# Altium schematic symbol library kmilo17pet-NSC_Switcher.SchLib: 2226 symbols (part 58 of 59)
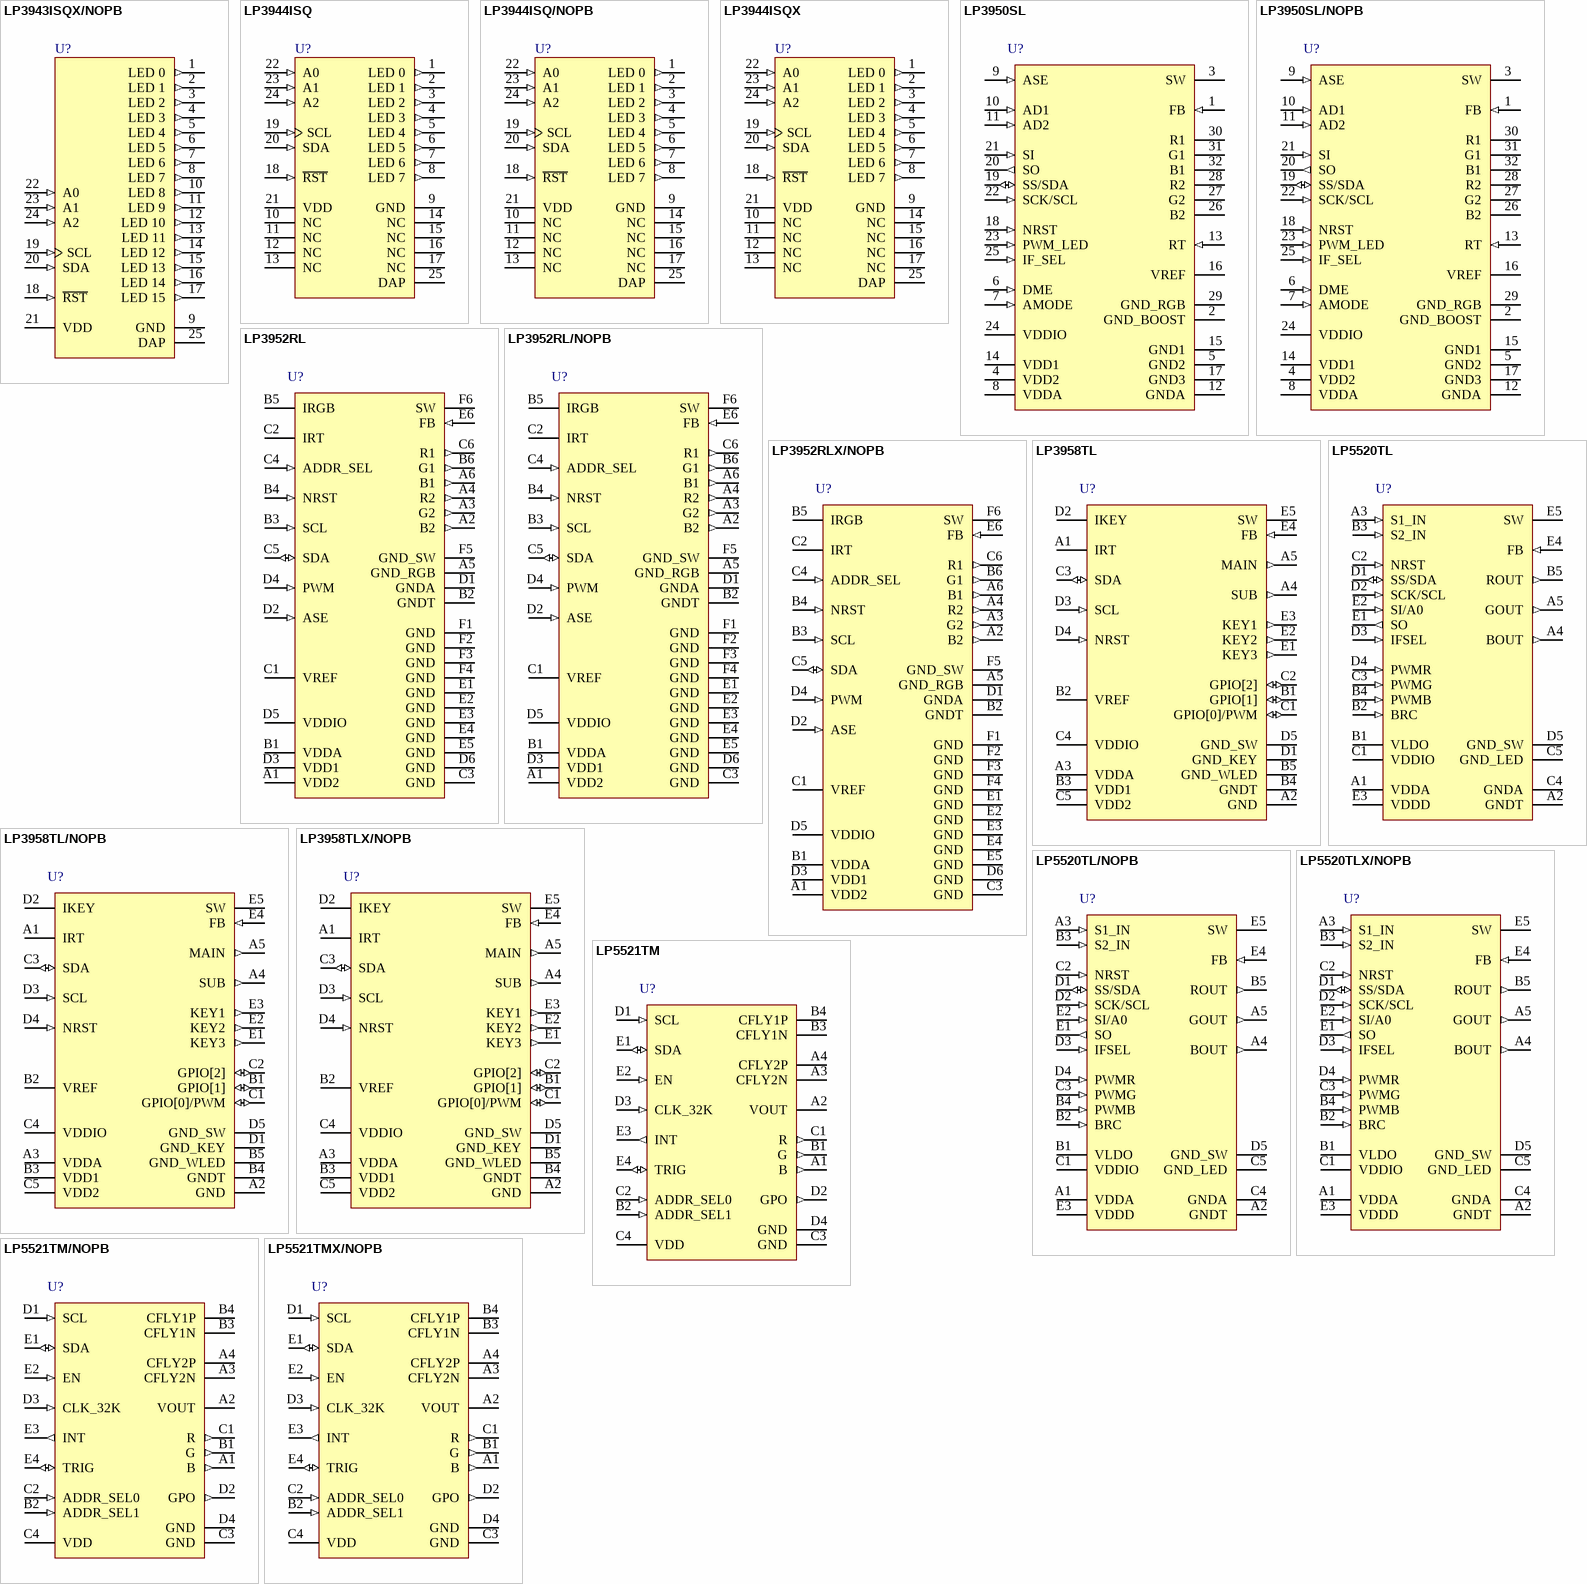
[diagram p126: symbols LP3943ISQX/NOPB to LP5521TMX/NOPB]

## LP3944ISQ
designator U?
RGB/White/Blue 8-LED Fun Light Driver, 24-pin LLP; PartNumber: LP3944ISQ; Manufacturer: National Semiconductor; PackageTopMarking: NS*UZXYTT*3944SQ; PowerWise: Y; CompType: Switcher; DatasheetVersion: Nov-2003; PackageVersion: revB, Aug-2003; PackageReference: SQA24A; PackageDescription: LLP, Plastic, Quad, 4 x 4 x 0.8mm Body, 24 Lead, 0.5mm Pitch, No Pullback; RoHS: N; PinCount: 24; High-Reliability: Y; Code_JEDEC: MO-220-WGGD-6; ComponentLink1Description: Manufacturer URL; ComponentLink1URL: http://www.national.com/; ComponentLink2Description: LP3944 Datasheet; ComponentLink2URL: http://www.national.com/ds/LP/LP3944.pdf; ComponentLink3Description: LP3944 Web Page; ComponentLink3URL: http://www.national.com/pf/LP/LP3944.html; ComponentLink4Description: SQA24A Package Page; ComponentLink4URL: http://www.national.com/packaging/folders/sqa24a.html
footprint SQA24A (QFN, 24-Leads, Body 4x4mm, Pitch 0.5mm, Thermal Pad 2.7x2.7mm, NSC Recommended)
pins: 1 LED 0 (out), 2 LED 1 (out), 3 LED 2 (out), 4 LED 3 (out), 5 LED 4 (out), 6 LED 5 (out), 7 LED 6 (out), 8 LED 7 (out), 9 GND (power), 10 NC, 11 NC, 12 NC, 13 NC, 14 NC, 15 NC, 16 NC, 17 NC, 18 ~{RST} (in), 19 SCL (in), 20 SDA (in), 21 VDD (power), 22 A0 (in), 23 A1 (in), 24 A2 (in), 25 DAP (power)

## LP3944ISQ/NOPB
designator U?
RGB/White/Blue 8-LED Fun Light Driver, 24-pin LLP, Pb-Free; PartNumber: LP3944ISQ/NOPB; Manufacturer: National Semiconductor; PackageTopMarking: NS*UZXYTT*3944SQ; PowerWise: Y; CompType: Switcher; DatasheetVersion: Nov-2003; PackageVersion: revB, Aug-2003; PackageReference: SQA24A; PackageDescription: LLP, Plastic, Quad, 4 x 4 x 0.8mm Body, 24 Lead, 0.5mm Pitch, No Pullback; RoHS: Y; PinCount: 24; High-Reliability: Y; Code_JEDEC: MO-220-WGGD-6; ComponentLink1Description: Manufacturer URL; ComponentLink1URL: http://www.national.com/; ComponentLink2Description: LP3944 Datasheet; ComponentLink2URL: http://www.national.com/ds/LP/LP3944.pdf; ComponentLink3Description: LP3944 Web Page; ComponentLink3URL: http://www.national.com/pf/LP/LP3944.html; ComponentLink4Description: SQA24A Package Page; ComponentLink4URL: http://www.national.com/packaging/folders/sqa24a.html
footprint SQA24A (QFN, 24-Leads, Body 4x4mm, Pitch 0.5mm, Thermal Pad 2.7x2.7mm, NSC Recommended)
pins: 1 LED 0 (out), 2 LED 1 (out), 3 LED 2 (out), 4 LED 3 (out), 5 LED 4 (out), 6 LED 5 (out), 7 LED 6 (out), 8 LED 7 (out), 9 GND (power), 10 NC, 11 NC, 12 NC, 13 NC, 14 NC, 15 NC, 16 NC, 17 NC, 18 ~{RST} (in), 19 SCL (in), 20 SDA (in), 21 VDD (power), 22 A0 (in), 23 A1 (in), 24 A2 (in), 25 DAP (power)

## LP3944ISQX
designator U?
RGB/White/Blue 8-LED Fun Light Driver, 24-pin LLP; PartNumber: LP3944ISQX; Manufacturer: National Semiconductor; PackageTopMarking: NS*UZXYTT*3944SQ; PowerWise: Y; CompType: Switcher; DatasheetVersion: Nov-2003; PackageVersion: revB, Aug-2003; PackageReference: SQA24A; PackageDescription: LLP, Plastic, Quad, 4 x 4 x 0.8mm Body, 24 Lead, 0.5mm Pitch, No Pullback; RoHS: N; PinCount: 24; High-Reliability: Y; Code_JEDEC: MO-220-WGGD-6; ComponentLink1Description: Manufacturer URL; ComponentLink1URL: http://www.national.com/; ComponentLink2Description: LP3944 Datasheet; ComponentLink2URL: http://www.national.com/ds/LP/LP3944.pdf; ComponentLink3Description: LP3944 Web Page; ComponentLink3URL: http://www.national.com/pf/LP/LP3944.html; ComponentLink4Description: SQA24A Package Page; ComponentLink4URL: http://www.national.com/packaging/folders/sqa24a.html
footprint SQA24A (QFN, 24-Leads, Body 4x4mm, Pitch 0.5mm, Thermal Pad 2.7x2.7mm, NSC Recommended)
pins: 1 LED 0 (out), 2 LED 1 (out), 3 LED 2 (out), 4 LED 3 (out), 5 LED 4 (out), 6 LED 5 (out), 7 LED 6 (out), 8 LED 7 (out), 9 GND (power), 10 NC, 11 NC, 12 NC, 13 NC, 14 NC, 15 NC, 16 NC, 17 NC, 18 ~{RST} (in), 19 SCL (in), 20 SDA (in), 21 VDD (power), 22 A0 (in), 23 A1 (in), 24 A2 (in), 25 DAP (power)

## LP3950SL
designator U?
Color LED Driver with Audio Synchronizer, 32-pin Laminate TCSP; PartNumber: LP3950SL; Manufacturer: National Semiconductor; PackageTopMarking: NSZXYTT*LP3950SL; PowerWise: Y; CompType: Switcher; DatasheetVersion: Feb-2005; PackageVersion: revA, Aug-2001; PackageReference: SLD32A; PackageDescription: Thin CSP, Plastic, Laminated, 4.5 x 5.5 x 0.8mm Body, 32 Lead, 0.5mm Pitch; RoHS: Y; PinCount: 32; High-Reliability: Y; Code_JEDEC: MO-208-GEEA; ComponentLink1Description: Manufacturer URL; ComponentLink1URL: http://www.national.com/; ComponentLink2Description: LP3950 Datasheet; ComponentLink2URL: http://www.national.com/ds/LP/LP3950.pdf; ComponentLink3Description: LP3950 Web Page; ComponentLink3URL: http://www.national.com/pf/LP/LP3950.html; ComponentLink4Description: SLD32A Package Page; ComponentLink4URL: http://www.national.com/packaging/folders/sld32a.html
footprint SLD32A (PQFN, 32-Leads (9x7 pads), Body 4.5x5.5mm, Pitch 0.5mm, NSC Recommended)
pins: 1 FB (in), 2 GND_BOOST (power), 3 SW (power), 4 VDD2 (power), 5 GND2 (power), 6 DME (in), 7 AMODE (in), 8 VDDA (power), 9 ASE (in), 10 AD1 (in), 11 AD2 (in), 12 GNDA (power), 13 RT (in), 14 VDD1 (power), 15 GND1 (power), 16 VREF, 17 GND3 (power), 18 NRST (in), 19 SS/SDA (io), 20 SO (out), 21 SI (in), 22 SCK/SCL (in), 23 PWM_LED (in), 24 VDDIO (power), 25 IF_SEL (in), 26 B2 (oc), 27 G2 (oc), 28 R2 (oc), 29 GND_RGB (power), 30 R1 (oc), 31 G1 (oc), 32 B1 (oc)

## LP3950SL/NOPB
designator U?
Color LED Driver with Audio Synchronizer, 32-pin Laminate TCSP, Pb-Free; PartNumber: LP3950SL/NOPB; Manufacturer: National Semiconductor; PackageTopMarking: NSZXYTTE#*LP3950SL; PowerWise: Y; CompType: Switcher; DatasheetVersion: Feb-2005; PackageVersion: revA, Aug-2001; PackageReference: SLD32A; PackageDescription: Thin CSP, Plastic, Laminated, 4.5 x 5.5 x 0.8mm Body, 32 Lead, 0.5mm Pitch; RoHS: Y; PinCount: 32; High-Reliability: Y; Code_JEDEC: MO-208-GEEA; ComponentLink1Description: Manufacturer URL; ComponentLink1URL: http://www.national.com/; ComponentLink2Description: LP3950 Datasheet; ComponentLink2URL: http://www.national.com/ds/LP/LP3950.pdf; ComponentLink3Description: LP3950 Web Page; ComponentLink3URL: http://www.national.com/pf/LP/LP3950.html; ComponentLink4Description: SLD32A Package Page; ComponentLink4URL: http://www.national.com/packaging/folders/sld32a.html
footprint SLD32A (PQFN, 32-Leads (9x7 pads), Body 4.5x5.5mm, Pitch 0.5mm, NSC Recommended)
pins: 1 FB (in), 2 GND_BOOST (power), 3 SW (power), 4 VDD2 (power), 5 GND2 (power), 6 DME (in), 7 AMODE (in), 8 VDDA (power), 9 ASE (in), 10 AD1 (in), 11 AD2 (in), 12 GNDA (power), 13 RT (in), 14 VDD1 (power), 15 GND1 (power), 16 VREF, 17 GND3 (power), 18 NRST (in), 19 SS/SDA (io), 20 SO (out), 21 SI (in), 22 SCK/SCL (in), 23 PWM_LED (in), 24 VDDIO (power), 25 IF_SEL (in), 26 B2 (oc), 27 G2 (oc), 28 R2 (oc), 29 GND_RGB (power), 30 R1 (oc), 31 G1 (oc), 32 B1 (oc)

## LP3952RL
designator U?
6-Channel Color LED Driver with Audio Synchronization, 36-pin Micro SMDXT; PartNumber: LP3952RL; Manufacturer: National Semiconductor; PackageTopMarking: XYTT*I D62B; PowerWise: Y; CompType: Switcher; DatasheetVersion: Jul-2007; PackageVersion: Aug-2007; PackageReference: RLA36AAA; PackageDescription: Micro SMDxt, 36 Bump (Large), 0.5mm Pitch; RoHS: Y; PinCount: 36; High-Reliability: Y; ComponentLink1Description: Manufacturer URL; ComponentLink1URL: http://www.national.com/; ComponentLink2Description: LP3952 Datasheet; ComponentLink2URL: http://www.national.com/ds/LP/LP3952.pdf; ComponentLink3Description: LP3952 Web Page; ComponentLink3URL: http://www.national.com/pf/LP/LP3952.html
footprint RLA36AAA (Micro SMD, 36-Leads, Body 3x3mm, Pitch 0.5mm, NSC Recommended)
pins: A1 VDD2 (power), A2 B2 (out), A3 G2 (out), A4 R2 (out), A5 GND_RGB (power), A6 B1 (out), B1 VDDA (power), B2 GNDT (power), B3 SCL (in), B4 NRST (in), B5 IRGB, B6 G1 (out), C1 VREF, C2 IRT, C3 GND (power), C4 ADDR_SEL (in), C5 SDA (io), C6 R1 (out), D1 GNDA (power), D2 ASE (in), D3 VDD1 (power), D4 PWM (in), D5 VDDIO (power), D6 GND (power), E1 GND (power), E2 GND (power), E3 GND (power), E4 GND (power), E5 GND (power), E6 FB (in), F1 GND (power), F2 GND (power), F3 GND (power), F4 GND (power), F5 GND_SW (power), F6 SW (power)

## LP3952RL/NOPB
designator U?
6-Channel Color LED Driver with Audio Synchronization, 36-pin Micro SMDXT, Pb-Free; PartNumber: LP3952RL/NOPB; Manufacturer: National Semiconductor; PackageTopMarking: XYTT*I D62B; PowerWise: Y; CompType: Switcher; DatasheetVersion: Jul-2007; PackageVersion: Aug-2007; PackageReference: RLA36AAA; PackageDescription: Micro SMDxt, 36 Bump (Large), 0.5mm Pitch; RoHS: Y; PinCount: 36; High-Reliability: Y; ComponentLink1Description: Manufacturer URL; ComponentLink1URL: http://www.national.com/; ComponentLink2Description: LP3952 Datasheet; ComponentLink2URL: http://www.national.com/ds/LP/LP3952.pdf; ComponentLink3Description: LP3952 Web Page; ComponentLink3URL: http://www.national.com/pf/LP/LP3952.html; ComponentLink4Description: RLA36AAA Package Page; ComponentLink4URL: http://www.national.com/packaging/folders/rla36aaa.html
footprint RLA36AAA (Micro SMD, 36-Leads, Body 3x3mm, Pitch 0.5mm, NSC Recommended)
pins: A1 VDD2 (power), A2 B2 (out), A3 G2 (out), A4 R2 (out), A5 GND_RGB (power), A6 B1 (out), B1 VDDA (power), B2 GNDT (power), B3 SCL (in), B4 NRST (in), B5 IRGB, B6 G1 (out), C1 VREF, C2 IRT, C3 GND (power), C4 ADDR_SEL (in), C5 SDA (io), C6 R1 (out), D1 GNDA (power), D2 ASE (in), D3 VDD1 (power), D4 PWM (in), D5 VDDIO (power), D6 GND (power), E1 GND (power), E2 GND (power), E3 GND (power), E4 GND (power), E5 GND (power), E6 FB (in), F1 GND (power), F2 GND (power), F3 GND (power), F4 GND (power), F5 GND_SW (power), F6 SW (power)

## LP3952RLX/NOPB
designator U?
6-Channel Color LED Driver with Audio Synchronization, 36-pin Micro SMDXT, Pb-Free; PartNumber: LP3952RLX/NOPB; Manufacturer: National Semiconductor; PackageTopMarking: XYTT*I D62B; PowerWise: Y; CompType: Switcher; DatasheetVersion: Jul-2007; PackageVersion: Aug-2007; PackageReference: RLA36AAA; PackageDescription: Micro SMDxt, 36 Bump (Large), 0.5mm Pitch; RoHS: Y; PinCount: 36; High-Reliability: Y; ComponentLink1Description: Manufacturer URL; ComponentLink1URL: http://www.national.com/; ComponentLink2Description: LP3952 Datasheet; ComponentLink2URL: http://www.national.com/ds/LP/LP3952.pdf; ComponentLink3Description: LP3952 Web Page; ComponentLink3URL: http://www.national.com/pf/LP/LP3952.html; ComponentLink4Description: RLA36AAA Package Page; ComponentLink4URL: http://www.national.com/packaging/folders/rla36aaa.html
footprint RLA36AAA (Micro SMD, 36-Leads, Body 3x3mm, Pitch 0.5mm, NSC Recommended)
pins: A1 VDD2 (power), A2 B2 (out), A3 G2 (out), A4 R2 (out), A5 GND_RGB (power), A6 B1 (out), B1 VDDA (power), B2 GNDT (power), B3 SCL (in), B4 NRST (in), B5 IRGB, B6 G1 (out), C1 VREF, C2 IRT, C3 GND (power), C4 ADDR_SEL (in), C5 SDA (io), C6 R1 (out), D1 GNDA (power), D2 ASE (in), D3 VDD1 (power), D4 PWM (in), D5 VDDIO (power), D6 GND (power), E1 GND (power), E2 GND (power), E3 GND (power), E4 GND (power), E5 GND (power), E6 FB (in), F1 GND (power), F2 GND (power), F3 GND (power), F4 GND (power), F5 GND_SW (power), F6 SW (power)

## LP3958TL
designator U?
Lighting Management Unit with High Voltage Boost Converter, 25-pin Micro SMD; PartNumber: LP3958TL; Manufacturer: National Semiconductor; PackageTopMarking: XYTT*I SJHB; PowerWise: Y; CompType: Switcher; DatasheetVersion: Feb-2006; PackageVersion: revD, Dec-2003; PackageReference: TLA25CCA; PackageDescription: Thin Micro SMD, 25 Bump (Large), 0.5mm Pitch; RoHS: Y; PinCount: 25; High-Reliability: Y; Code_JEDEC: MO-211-DH; ComponentLink1Description: Manufacturer URL; ComponentLink1URL: http://www.national.com/; ComponentLink2Description: LP3958 Datasheet; ComponentLink2URL: http://www.national.com/ds/LP/LP3958.pdf; ComponentLink3Description: LP3958 Web Page; ComponentLink3URL: http://www.national.com/pf/LP/LP3958.html; ComponentLink4Description: TLA25CCA Package Page; ComponentLink4URL: http://www.national.com/packaging/folders/tla25cca.html
footprint TLA25CCA (Micro SMD, 25-Leads, Body 2.54x2.54mm, Pitch 0.5mm, NSC Recommended)
pins: A1 IRT, A2 GND (power), A3 VDDA (power), A4 SUB (out), A5 MAIN (out), B1 GPIO[1] (io), B2 VREF, B3 VDD1 (power), B4 GNDT (power), B5 GND_WLED (power), C1 GPIO[0]/PWM (io), C2 GPIO[2] (io), C3 SDA (io), C4 VDDIO (power), C5 VDD2 (power), D1 GND_KEY (power), D2 IKEY, D3 SCL (in), D4 NRST (in), D5 GND_SW (power), E1 KEY3 (out), E2 KEY2 (out), E3 KEY1 (out), E4 FB (in), E5 SW (power)

## LP3958TL/NOPB
designator U?
Lighting Management Unit with High Voltage Boost Converter, 25-pin Micro SMD, Pb-Free; PartNumber: LP3958TL/NOPB; Manufacturer: National Semiconductor; PackageTopMarking: XYTT*I SJHB; PowerWise: Y; CompType: Switcher; DatasheetVersion: Feb-2006; PackageVersion: revD, Dec-2003; PackageReference: TLA25CCA; PackageDescription: Thin Micro SMD, 25 Bump (Large), 0.5mm Pitch; RoHS: Y; PinCount: 25; High-Reliability: Y; Code_JEDEC: MO-211-DH; ComponentLink1Description: Manufacturer URL; ComponentLink1URL: http://www.national.com/; ComponentLink2Description: LP3958 Datasheet; ComponentLink2URL: http://www.national.com/ds/LP/LP3958.pdf; ComponentLink3Description: LP3958 Web Page; ComponentLink3URL: http://www.national.com/pf/LP/LP3958.html; ComponentLink4Description: TLA25CCA Package Page; ComponentLink4URL: http://www.national.com/packaging/folders/tla25cca.html
footprint TLA25CCA (Micro SMD, 25-Leads, Body 2.54x2.54mm, Pitch 0.5mm, NSC Recommended)
pins: A1 IRT, A2 GND (power), A3 VDDA (power), A4 SUB (out), A5 MAIN (out), B1 GPIO[1] (io), B2 VREF, B3 VDD1 (power), B4 GNDT (power), B5 GND_WLED (power), C1 GPIO[0]/PWM (io), C2 GPIO[2] (io), C3 SDA (io), C4 VDDIO (power), C5 VDD2 (power), D1 GND_KEY (power), D2 IKEY, D3 SCL (in), D4 NRST (in), D5 GND_SW (power), E1 KEY3 (out), E2 KEY2 (out), E3 KEY1 (out), E4 FB (in), E5 SW (power)

## LP3958TLX/NOPB
designator U?
Lighting Management Unit with High Voltage Boost Converter, 25-pin Micro SMD, Pb-Free; PartNumber: LP3958TLX/NOPB; Manufacturer: National Semiconductor; PackageTopMarking: XYTT*I SJHB; PowerWise: Y; CompType: Switcher; DatasheetVersion: Feb-2006; PackageVersion: revD, Dec-2003; PackageReference: TLA25CCA; PackageDescription: Thin Micro SMD, 25 Bump (Large), 0.5mm Pitch; RoHS: Y; PinCount: 25; High-Reliability: Y; Code_JEDEC: MO-211-DH; ComponentLink1Description: Manufacturer URL; ComponentLink1URL: http://www.national.com/; ComponentLink2Description: LP3958 Datasheet; ComponentLink2URL: http://www.national.com/ds/LP/LP3958.pdf; ComponentLink3Description: LP3958 Web Page; ComponentLink3URL: http://www.national.com/pf/LP/LP3958.html; ComponentLink4Description: TLA25CCA Package Page; ComponentLink4URL: http://www.national.com/packaging/folders/tla25cca.html
footprint TLA25CCA (Micro SMD, 25-Leads, Body 2.54x2.54mm, Pitch 0.5mm, NSC Recommended)
pins: A1 IRT, A2 GND (power), A3 VDDA (power), A4 SUB (out), A5 MAIN (out), B1 GPIO[1] (io), B2 VREF, B3 VDD1 (power), B4 GNDT (power), B5 GND_WLED (power), C1 GPIO[0]/PWM (io), C2 GPIO[2] (io), C3 SDA (io), C4 VDDIO (power), C5 VDD2 (power), D1 GND_KEY (power), D2 IKEY, D3 SCL (in), D4 NRST (in), D5 GND_SW (power), E1 KEY3 (out), E2 KEY2 (out), E3 KEY1 (out), E4 FB (in), E5 SW (power)

## LP5520TL
designator U?
RGB Backlight LED Driver, 25-pin Micro SMD; PartNumber: LP5520TL; Manufacturer: National Semiconductor; PackageTopMarking: XYTT*I 5520; PowerWise: Y; CompType: Switcher; DatasheetVersion: May-2007; PackageVersion: revD, Dec-2003; PackageReference: TLA25EMA; PackageDescription: Thin Micro SMD, 25 Bump (Large), 0.5mm Pitch; RoHS: Y; PinCount: 25; High-Reliability: Y; Code_JEDEC: MO-211-DH; ComponentLink1Description: Manufacturer URL; ComponentLink1URL: http://www.national.com/; ComponentLink2Description: LP5520 Datasheet; ComponentLink2URL: http://www.national.com/ds/LP/LP5520.pdf; ComponentLink3Description: LP5520 Web Page; ComponentLink3URL: http://www.national.com/pf/LP/LP5520.html; ComponentLink4Description: TLA25EMA Package Page; ComponentLink4URL: http://www.national.com/packaging/folders/tla25ema.html
footprint TLA25EMA (Micro SMD, 25-Leads, Body 2.77x2.59mm, Pitch 0.5mm, NSC Recommended)
pins: A1 VDDA (power), A2 GNDT (power), A3 S1_IN (in), A4 BOUT (out), A5 GOUT (out), B1 VLDO (power), B2 BRC (in), B3 S2_IN (in), B4 PWMB (in), B5 ROUT (out), C1 VDDIO (power), C2 NRST (in), C3 PWMG (in), C4 GNDA (power), C5 GND_LED (power), D1 SS/SDA (io), D2 SCK/SCL (in), D3 IFSEL (in), D4 PWMR (in), D5 GND_SW (power), E1 SO (out), E2 SI/A0 (in), E3 VDDD (power), E4 FB (in), E5 SW (power)

## LP5520TL/NOPB
designator U?
RGB Backlight LED Driver, 25-pin Micro SMD, Pb-Free; PartNumber: LP5520TL/NOPB; Manufacturer: National Semiconductor; PackageTopMarking: XYTT*I 5520; PowerWise: Y; CompType: Switcher; DatasheetVersion: May-2007; PackageVersion: revD, Dec-2003; PackageReference: TLA25EMA; PackageDescription: Thin Micro SMD, 25 Bump (Large), 0.5mm Pitch; RoHS: Y; PinCount: 25; High-Reliability: Y; Code_JEDEC: MO-211-DH; ComponentLink1Description: Manufacturer URL; ComponentLink1URL: http://www.national.com/; ComponentLink2Description: LP5520 Datasheet; ComponentLink2URL: http://www.national.com/ds/LP/LP5520.pdf; ComponentLink3Description: LP5520 Web Page; ComponentLink3URL: http://www.national.com/pf/LP/LP5520.html; ComponentLink4Description: TLA25EMA Package Page; ComponentLink4URL: http://www.national.com/packaging/folders/tla25ema.html
footprint TLA25EMA (Micro SMD, 25-Leads, Body 2.77x2.59mm, Pitch 0.5mm, NSC Recommended)
pins: A1 VDDA (power), A2 GNDT (power), A3 S1_IN (in), A4 BOUT (out), A5 GOUT (out), B1 VLDO (power), B2 BRC (in), B3 S2_IN (in), B4 PWMB (in), B5 ROUT (out), C1 VDDIO (power), C2 NRST (in), C3 PWMG (in), C4 GNDA (power), C5 GND_LED (power), D1 SS/SDA (io), D2 SCK/SCL (in), D3 IFSEL (in), D4 PWMR (in), D5 GND_SW (power), E1 SO (out), E2 SI/A0 (in), E3 VDDD (power), E4 FB (in), E5 SW (power)

## LP5520TLX/NOPB
designator U?
RGB Backlight LED Driver, 25-pin Micro SMD, Pb-Free; PartNumber: LP5520TLX/NOPB; Manufacturer: National Semiconductor; PackageTopMarking: XYTT*I 5520; PowerWise: Y; CompType: Switcher; DatasheetVersion: May-2007; PackageVersion: revD, Dec-2003; PackageReference: TLA25EMA; PackageDescription: Thin Micro SMD, 25 Bump (Large), 0.5mm Pitch; RoHS: Y; PinCount: 25; High-Reliability: Y; Code_JEDEC: MO-211-DH; ComponentLink1Description: Manufacturer URL; ComponentLink1URL: http://www.national.com/; ComponentLink2Description: LP5520 Datasheet; ComponentLink2URL: http://www.national.com/ds/LP/LP5520.pdf; ComponentLink3Description: LP5520 Web Page; ComponentLink3URL: http://www.national.com/pf/LP/LP5520.html; ComponentLink4Description: TLA25EMA Package Page; ComponentLink4URL: http://www.national.com/packaging/folders/tla25ema.html
footprint TLA25EMA (Micro SMD, 25-Leads, Body 2.77x2.59mm, Pitch 0.5mm, NSC Recommended)
pins: A1 VDDA (power), A2 GNDT (power), A3 S1_IN (in), A4 BOUT (out), A5 GOUT (out), B1 VLDO (power), B2 BRC (in), B3 S2_IN (in), B4 PWMB (in), B5 ROUT (out), C1 VDDIO (power), C2 NRST (in), C3 PWMG (in), C4 GNDA (power), C5 GND_LED (power), D1 SS/SDA (io), D2 SCK/SCL (in), D3 IFSEL (in), D4 PWMR (in), D5 GND_SW (power), E1 SO (out), E2 SI/A0 (in), E3 VDDD (power), E4 FB (in), E5 SW (power)

## LP5521TM
designator U?
Programmable Three Channel LED Driver, 20-pin Micro SMD; PartNumber: LP5521TM; Manufacturer: National Semiconductor; PackageTopMarking: XYTT*I 5521; PowerWise: Y; CompType: Switcher; DatasheetVersion: May-2008; PackageVersion: revD, 2008; PackageReference: TMD20ECA; PackageDescription: Thin Micro SMD, 20 Bump, 0.4mm Pitch; RoHS: Y; PinCount: 20; High-Reliability: Y; ComponentLink1Description: Manufacturer URL; ComponentLink1URL: http://www.national.com/; ComponentLink2Description: LP5521 Datasheet; ComponentLink2URL: http://www.national.com/ds/LP/LP5521.pdf; ComponentLink3Description: LP5521 Web Page; ComponentLink3URL: http://www.national.com/pf/LP/LP5521.html
footprint TMD20ECA (Micro SMD, 20-Leads, Body 2.07x1.72mm, Pitch 0.4mm, NSC Recommended)
pins: A1 B (out), A2 VOUT, A3 CFLY2N, A4 CFLY2P, B1 G (out), B2 ADDR_SEL1 (in), B3 CFLY1N, B4 CFLY1P, C1 R (out), C2 ADDR_SEL0 (in), C3 GND (power), C4 VDD (power), D1 SCL (in), D2 GPO (out), D3 CLK_32K (in), D4 GND (power), E1 SDA (io), E2 EN (in), E3 INT (out), E4 TRIG (io)

## LP5521TM/NOPB
designator U?
Programmable Three Channel LED Driver, 20-pin Micro SMD, Pb-Free; PartNumber: LP5521TM/NOPB; Manufacturer: National Semiconductor; PackageTopMarking: XYTT*I 5521; PowerWise: Y; CompType: Switcher; DatasheetVersion: May-2008; PackageVersion: revD, 2008; PackageReference: TMD20ECA; PackageDescription: Thin Micro SMD, 20 Bump, 0.4mm Pitch; RoHS: Y; PinCount: 20; High-Reliability: Y; ComponentLink1Description: Manufacturer URL; ComponentLink1URL: http://www.national.com/; ComponentLink2Description: LP5521 Datasheet; ComponentLink2URL: http://www.national.com/ds/LP/LP5521.pdf; ComponentLink3Description: LP5521 Web Page; ComponentLink3URL: http://www.national.com/pf/LP/LP5521.html; ComponentLink4Description: TMD20ECA Package Page; ComponentLink4URL: http://www.national.com/packaging/folders/tmd20eca.html
footprint TMD20ECA (Micro SMD, 20-Leads, Body 2.07x1.72mm, Pitch 0.4mm, NSC Recommended)
pins: A1 B (out), A2 VOUT, A3 CFLY2N, A4 CFLY2P, B1 G (out), B2 ADDR_SEL1 (in), B3 CFLY1N, B4 CFLY1P, C1 R (out), C2 ADDR_SEL0 (in), C3 GND (power), C4 VDD (power), D1 SCL (in), D2 GPO (out), D3 CLK_32K (in), D4 GND (power), E1 SDA (io), E2 EN (in), E3 INT (out), E4 TRIG (io)

## LP5521TMX/NOPB
designator U?
Programmable Three Channel LED Driver, 20-pin Micro SMD, Pb-Free; PartNumber: LP5521TMX/NOPB; Manufacturer: National Semiconductor; PackageTopMarking: XYTT*I 5521; PowerWise: Y; CompType: Switcher; DatasheetVersion: May-2008; PackageVersion: revD, 2008; PackageReference: TMD20ECA; PackageDescription: Thin Micro SMD, 20 Bump, 0.4mm Pitch; RoHS: Y; PinCount: 20; High-Reliability: Y; ComponentLink1Description: Manufacturer URL; ComponentLink1URL: http://www.national.com/; ComponentLink2Description: LP5521 Datasheet; ComponentLink2URL: http://www.national.com/ds/LP/LP5521.pdf; ComponentLink3Description: LP5521 Web Page; ComponentLink3URL: http://www.national.com/pf/LP/LP5521.html; ComponentLink4Description: TMD20ECA Package Page; ComponentLink4URL: http://www.national.com/packaging/folders/tmd20eca.html
footprint TMD20ECA (Micro SMD, 20-Leads, Body 2.07x1.72mm, Pitch 0.4mm, NSC Recommended)
pins: A1 B (out), A2 VOUT, A3 CFLY2N, A4 CFLY2P, B1 G (out), B2 ADDR_SEL1 (in), B3 CFLY1N, B4 CFLY1P, C1 R (out), C2 ADDR_SEL0 (in), C3 GND (power), C4 VDD (power), D1 SCL (in), D2 GPO (out), D3 CLK_32K (in), D4 GND (power), E1 SDA (io), E2 EN (in), E3 INT (out), E4 TRIG (io)

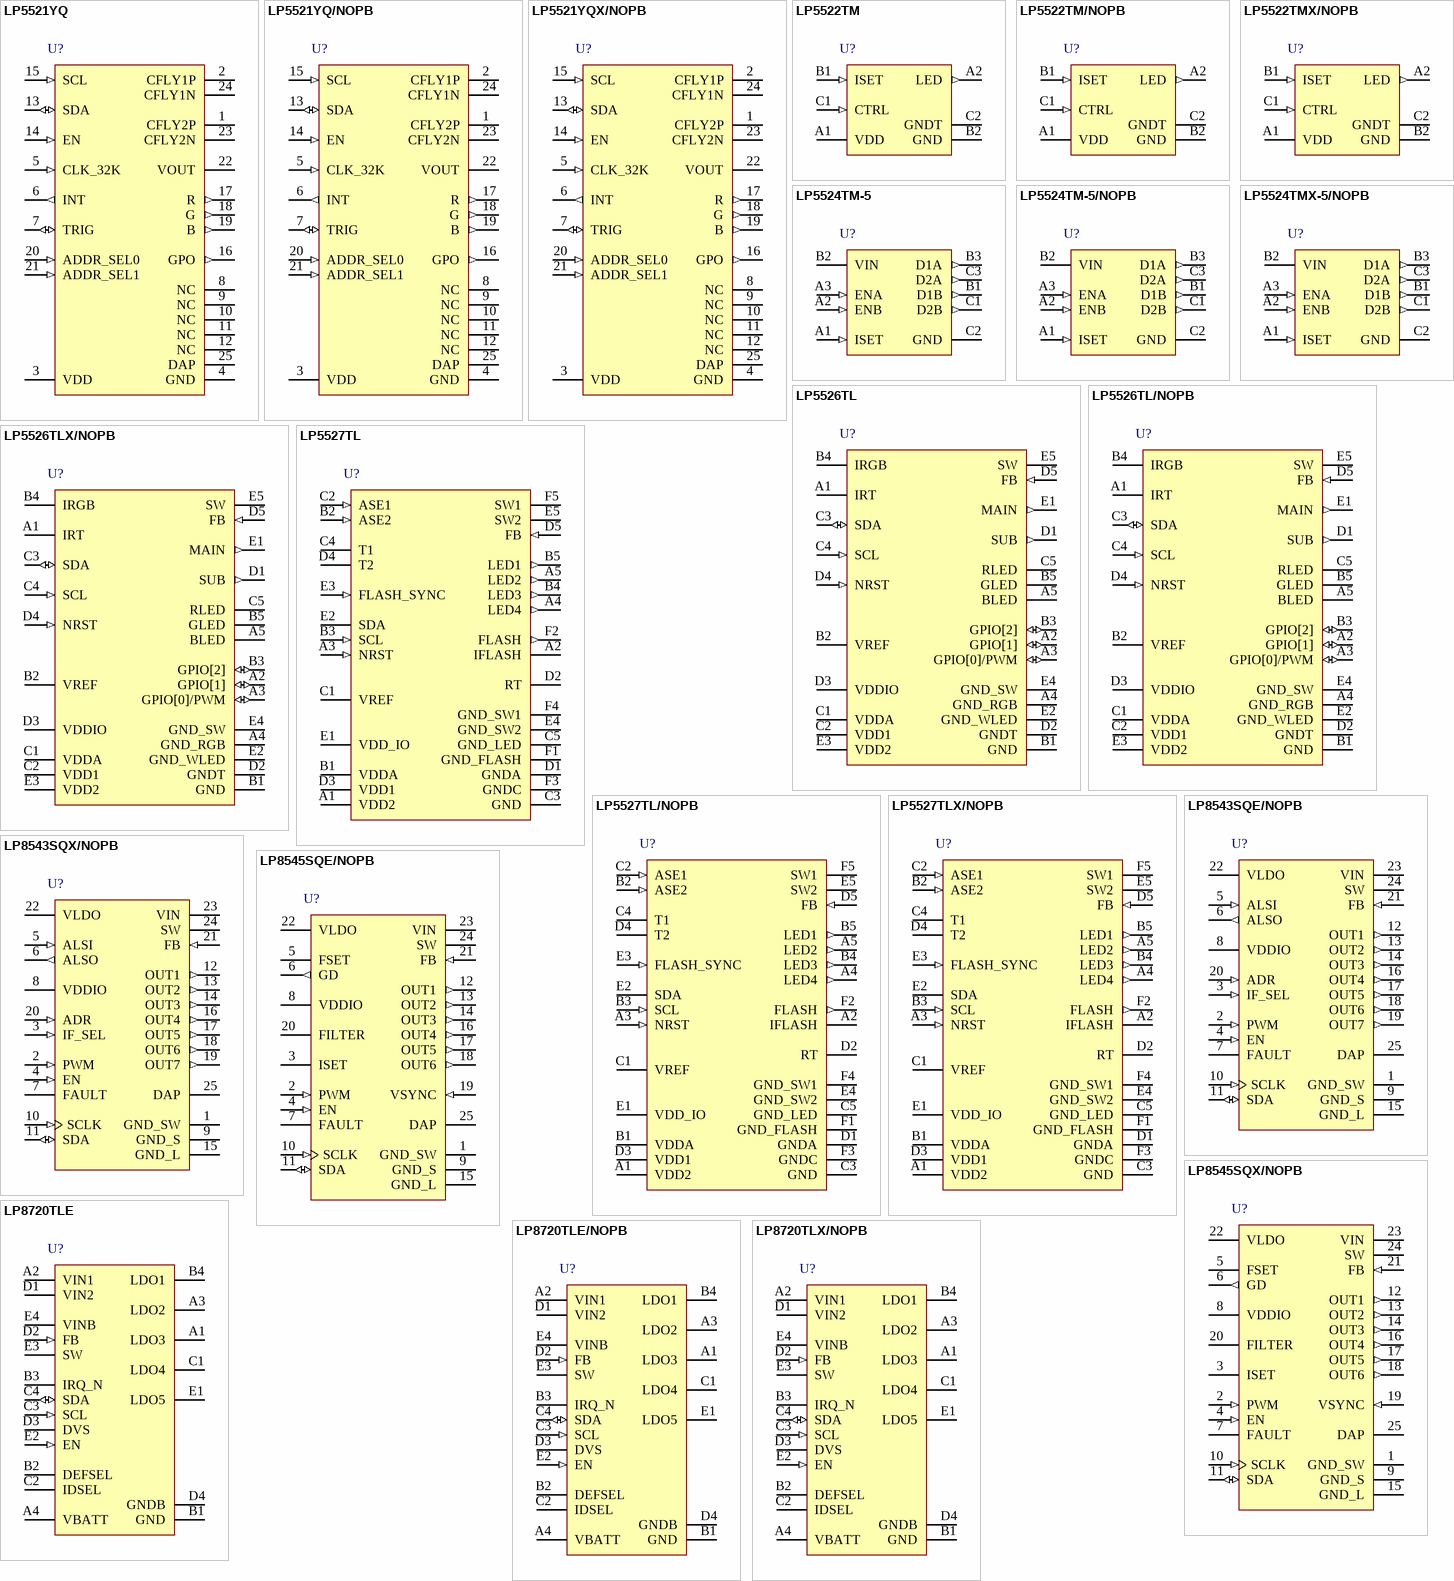
[diagram p68: symbols LP5521YQ to LP8720TLX/NOPB]

## LP5521YQ
designator U?
Programmable Three Channel LED Driver, 25-pin LLP; PartNumber: LP5521YQ; Manufacturer: National Semiconductor; PackageTopMarking: NS*UZXYTT*L5521YQ; PowerWise: Y; CompType: Switcher; DatasheetVersion: May-2008; PackageVersion: revB, Jun-2005; PackageReference: YQA24A; PackageDescription: LLP, Plastic, Quad, 5 x 4 x 0.8mm Body, 24 Lead, 0.5mm Pitch; RoHS: Y; PinCount: 24; High-Reliability: Y; ComponentLink1Description: Manufacturer URL; ComponentLink1URL: http://www.national.com/; ComponentLink2Description: LP5521 Datasheet; ComponentLink2URL: http://www.national.com/ds/LP/LP5521.pdf; ComponentLink3Description: LP5521 Web Page; ComponentLink3URL: http://www.national.com/pf/LP/LP5521.html; ComponentLink4Description: YQA24A Package Page; ComponentLink4URL: http://www.national.com/packaging/folders/yqa24a.html
footprint YQA24A (PQFN, 24-Leads, Body 4x5mm, Pitch 0.5mm, NSC Recommended)
pins: 1 CFLY2P, 2 CFLY1P, 3 VDD (power), 4 GND (power), 5 CLK_32K (in), 6 INT (out), 7 TRIG (io), 8 NC, 9 NC, 10 NC, 11 NC, 12 NC, 13 SDA (io), 14 EN (in), 15 SCL (in), 16 GPO (out), 17 R (out), 18 G (out), 19 B (out), 20 ADDR_SEL0 (in), 21 ADDR_SEL1 (in), 22 VOUT, 23 CFLY2N, 24 CFLY1N, 25 DAP (power)

## LP5521YQ/NOPB
designator U?
Programmable Three Channel LED Driver, 25-pin LLP, Pb-Free; PartNumber: LP5521YQ/NOPB; Manufacturer: National Semiconductor; PackageTopMarking: NS*UZXYTT*L5521YQ; PowerWise: Y; CompType: Switcher; DatasheetVersion: May-2008; PackageVersion: revB, Jun-2005; PackageReference: YQA24A; PackageDescription: LLP, Plastic, Quad, 5 x 4 x 0.8mm Body, 24 Lead, 0.5mm Pitch; RoHS: Y; PinCount: 24; High-Reliability: Y; ComponentLink1Description: Manufacturer URL; ComponentLink1URL: http://www.national.com/; ComponentLink2Description: LP5521 Datasheet; ComponentLink2URL: http://www.national.com/ds/LP/LP5521.pdf; ComponentLink3Description: LP5521 Web Page; ComponentLink3URL: http://www.national.com/pf/LP/LP5521.html; ComponentLink4Description: YQA24A Package Page; ComponentLink4URL: http://www.national.com/packaging/folders/yqa24a.html
footprint YQA24A (PQFN, 24-Leads, Body 4x5mm, Pitch 0.5mm, NSC Recommended)
pins: 1 CFLY2P, 2 CFLY1P, 3 VDD (power), 4 GND (power), 5 CLK_32K (in), 6 INT (out), 7 TRIG (io), 8 NC, 9 NC, 10 NC, 11 NC, 12 NC, 13 SDA (io), 14 EN (in), 15 SCL (in), 16 GPO (out), 17 R (out), 18 G (out), 19 B (out), 20 ADDR_SEL0 (in), 21 ADDR_SEL1 (in), 22 VOUT, 23 CFLY2N, 24 CFLY1N, 25 DAP (power)

## LP5521YQX/NOPB
designator U?
Programmable Three Channel LED Driver, 25-pin LLP, Pb-Free; PartNumber: LP5521YQX/NOPB; Manufacturer: National Semiconductor; PackageTopMarking: NS*UZXYTT*L5521YQ; PowerWise: Y; CompType: Switcher; DatasheetVersion: May-2008; PackageVersion: revB, Jun-2005; PackageReference: YQA24A; PackageDescription: LLP, Plastic, Quad, 5 x 4 x 0.8mm Body, 24 Lead, 0.5mm Pitch; RoHS: Y; PinCount: 24; High-Reliability: Y; ComponentLink1Description: Manufacturer URL; ComponentLink1URL: http://www.national.com/; ComponentLink2Description: LP5521 Datasheet; ComponentLink2URL: http://www.national.com/ds/LP/LP5521.pdf; ComponentLink3Description: LP5521 Web Page; ComponentLink3URL: http://www.national.com/pf/LP/LP5521.html; ComponentLink4Description: YQA24A Package Page; ComponentLink4URL: http://www.national.com/packaging/folders/yqa24a.html
footprint YQA24A (PQFN, 24-Leads, Body 4x5mm, Pitch 0.5mm, NSC Recommended)
pins: 1 CFLY2P, 2 CFLY1P, 3 VDD (power), 4 GND (power), 5 CLK_32K (in), 6 INT (out), 7 TRIG (io), 8 NC, 9 NC, 10 NC, 11 NC, 12 NC, 13 SDA (io), 14 EN (in), 15 SCL (in), 16 GPO (out), 17 R (out), 18 G (out), 19 B (out), 20 ADDR_SEL0 (in), 21 ADDR_SEL1 (in), 22 VOUT, 23 CFLY2N, 24 CFLY1N, 25 DAP (power)

## LP5522TM
designator U?
Programmable LED Driver, 6-pin Micro SMD; PartNumber: LP5522TM; Manufacturer: National Semiconductor; PackageTopMarking: XV*I 6; PowerWise: Y; CompType: Switcher; DatasheetVersion: Jun-2007; PackageVersion: revB, 2007; PackageReference: TMD06AAA; PackageDescription: Thin Micro SMD, 6 Bump, 0.4mm Pitch; RoHS: Y; PinCount: 6; High-Reliability: Y; ComponentLink1Description: Manufacturer URL; ComponentLink1URL: http://www.national.com/; ComponentLink2Description: LP5522 Datasheet; ComponentLink2URL: http://www.national.com/ds/LP/LP5522.pdf; ComponentLink3Description: LP5522 Web Page; ComponentLink3URL: http://www.national.com/pf/LP/LP5522.html
footprint TMD06AAA (Micro SMD, 6-Leads, Body 1.22x0.82mm, Pitch 0.4mm, NSC Recommended)
pins: A1 VDD (power), A2 LED (out), B1 ISET (in), B2 GND (power), C1 CTRL (in), C2 GNDT (power)

## LP5522TM/NOPB
designator U?
Programmable LED Driver, 6-pin Micro SMD, Pb-Free; PartNumber: LP5522TM/NOPB; Manufacturer: National Semiconductor; PackageTopMarking: XV*I 6; PowerWise: Y; CompType: Switcher; DatasheetVersion: Jun-2007; PackageVersion: revB, 2007; PackageReference: TMD06AAA; PackageDescription: Thin Micro SMD, 6 Bump, 0.4mm Pitch; RoHS: Y; PinCount: 6; High-Reliability: Y; ComponentLink1Description: Manufacturer URL; ComponentLink1URL: http://www.national.com/; ComponentLink2Description: LP5522 Datasheet; ComponentLink2URL: http://www.national.com/ds/LP/LP5522.pdf; ComponentLink3Description: LP5522 Web Page; ComponentLink3URL: http://www.national.com/pf/LP/LP5522.html; ComponentLink4Description: TMD06AAA Package Page; ComponentLink4URL: http://www.national.com/packaging/folders/tmd06aaa.html
footprint TMD06AAA (Micro SMD, 6-Leads, Body 1.22x0.82mm, Pitch 0.4mm, NSC Recommended)
pins: A1 VDD (power), A2 LED (out), B1 ISET (in), B2 GND (power), C1 CTRL (in), C2 GNDT (power)

## LP5522TMX/NOPB
designator U?
Programmable LED Driver, 6-pin Micro SMD, Pb-Free; PartNumber: LP5522TMX/NOPB; Manufacturer: National Semiconductor; PackageTopMarking: XV*I 6; PowerWise: Y; CompType: Switcher; DatasheetVersion: Jun-2007; PackageVersion: revB, 2007; PackageReference: TMD06AAA; PackageDescription: Thin Micro SMD, 6 Bump, 0.4mm Pitch; RoHS: Y; PinCount: 6; High-Reliability: Y; ComponentLink1Description: Manufacturer URL; ComponentLink1URL: http://www.national.com/; ComponentLink2Description: LP5522 Datasheet; ComponentLink2URL: http://www.national.com/ds/LP/LP5522.pdf; ComponentLink3Description: LP5522 Web Page; ComponentLink3URL: http://www.national.com/pf/LP/LP5522.html; ComponentLink4Description: TMD06AAA Package Page; ComponentLink4URL: http://www.national.com/packaging/folders/tmd06aaa.html
footprint TMD06AAA (Micro SMD, 6-Leads, Body 1.22x0.82mm, Pitch 0.4mm, NSC Recommended)
pins: A1 VDD (power), A2 LED (out), B1 ISET (in), B2 GND (power), C1 CTRL (in), C2 GNDT (power)

## LP5524TM-5
designator U?
Parallel LED Driver with PWM Brightness Control, 9-pin Micro SMD; PartNumber: LP5524TM-5; Manufacturer: National Semiconductor; PackageTopMarking: XV*I V2; PowerWise: N; CompType: Switcher; High-Reliability: Y; DatasheetVersion: Jul-2007; PackageVersion: revA, May-2005; PackageReference: TMD09AAA; PackageDescription: Thin Micro SMD, 9 Bump, 0.4mm Pitch; RoHS: Y; PinCount: 9; ComponentLink1Description: Manufacturer URL; ComponentLink1URL: http://www.national.com/; ComponentLink2Description: LP5524 Datasheet; ComponentLink2URL: http://www.national.com/ds/LP/LP5524.pdf; ComponentLink3Description: LP5524 Web Page; ComponentLink3URL: http://www.national.com/pf/LP/LP5524.html; ComponentLink4Description: TMD09AAA Package Page; ComponentLink4URL: http://www.national.com/packaging/folders/tmd09aaa.html
footprint TMD09AAA (Micro SMD, 9-Leads, Body 1.22x1.22mm, Pitch 0.4mm, NSC Recommended)
pins: A1 ISET (in), A2 ENB (in), A3 ENA (in), B1 D1B (out), B2 VIN (power), B3 D1A (out), C1 D2B (out), C2 GND (power), C3 D2A (out)

## LP5524TM-5/NOPB
designator U?
Parallel LED Driver with PWM Brightness Control, 9-pin Micro SMD, Pb-Free; PartNumber: LP5524TM-5/NOPB; Manufacturer: National Semiconductor; PackageTopMarking: XV*I V2; PowerWise: N; CompType: Switcher; High-Reliability: Y; DatasheetVersion: Jul-2007; PackageVersion: revA, May-2005; PackageReference: TMD09AAA; PackageDescription: Thin Micro SMD, 9 Bump, 0.4mm Pitch; RoHS: Y; PinCount: 9; ComponentLink1Description: Manufacturer URL; ComponentLink1URL: http://www.national.com/; ComponentLink2Description: LP5524 Datasheet; ComponentLink2URL: http://www.national.com/ds/LP/LP5524.pdf; ComponentLink3Description: LP5524 Web Page; ComponentLink3URL: http://www.national.com/pf/LP/LP5524.html; ComponentLink4Description: TMD09AAA Package Page; ComponentLink4URL: http://www.national.com/packaging/folders/tmd09aaa.html
footprint TMD09AAA (Micro SMD, 9-Leads, Body 1.22x1.22mm, Pitch 0.4mm, NSC Recommended)
pins: A1 ISET (in), A2 ENB (in), A3 ENA (in), B1 D1B (out), B2 VIN (power), B3 D1A (out), C1 D2B (out), C2 GND (power), C3 D2A (out)

## LP5524TMX-5/NOPB
designator U?
Parallel LED Driver with PWM Brightness Control, 9-pin Micro SMD, Pb-Free; PartNumber: LP5524TMX-5/NOPB; Manufacturer: National Semiconductor; PackageTopMarking: XV*I V2; PowerWise: N; CompType: Switcher; High-Reliability: Y; DatasheetVersion: Jul-2007; PackageVersion: revA, May-2005; PackageReference: TMD09AAA; PackageDescription: Thin Micro SMD, 9 Bump, 0.4mm Pitch; RoHS: Y; PinCount: 9; ComponentLink1Description: Manufacturer URL; ComponentLink1URL: http://www.national.com/; ComponentLink2Description: LP5524 Datasheet; ComponentLink2URL: http://www.national.com/ds/LP/LP5524.pdf; ComponentLink3Description: LP5524 Web Page; ComponentLink3URL: http://www.national.com/pf/LP/LP5524.html; ComponentLink4Description: TMD09AAA Package Page; ComponentLink4URL: http://www.national.com/packaging/folders/tmd09aaa.html
footprint TMD09AAA (Micro SMD, 9-Leads, Body 1.22x1.22mm, Pitch 0.4mm, NSC Recommended)
pins: A1 ISET (in), A2 ENB (in), A3 ENA (in), B1 D1B (out), B2 VIN (power), B3 D1A (out), C1 D2B (out), C2 GND (power), C3 D2A (out)

## LP5526TL
designator U?
Lighting Management Unit with High Voltage Boost Converter with up to 150mA Serial FLASH LED Driver, 25-pin Micro SMD; PartNumber: LP5526TL; Manufacturer: National Semiconductor; PackageTopMarking: XYTT*I 5526; PowerWise: Y; CompType: Switcher; DatasheetVersion: Mar-2006; PackageVersion: revD, Dec-2003; PackageReference: TLA25CCA; PackageDescription: Thin Micro SMD, 25 Bump (Large), 0.5mm Pitch; RoHS: Y; PinCount: 25; High-Reliability: Y; Code_JEDEC: MO-211-DH; ComponentLink1Description: Manufacturer URL; ComponentLink1URL: http://www.national.com/; ComponentLink2Description: LP5526 Datasheet; ComponentLink2URL: http://www.national.com/ds/LP/LP5526.pdf; ComponentLink3Description: LP5526 Web Page; ComponentLink3URL: http://www.national.com/pf/LP/LP5526.html; ComponentLink4Description: TLA25CCA Package Page; ComponentLink4URL: http://www.national.com/packaging/folders/tla25cca.html
footprint TLA25CCA (Micro SMD, 25-Leads, Body 2.54x2.54mm, Pitch 0.5mm, NSC Recommended)
pins: A1 IRT, A2 GPIO[1] (io), A3 GPIO[0]/PWM (io), A4 GND_RGB (power), A5 BLED (oc), B1 GND (power), B2 VREF, B3 GPIO[2] (io), B4 IRGB, B5 GLED (oc), C1 VDDA (power), C2 VDD1 (power), C3 SDA (io), C4 SCL (in), C5 RLED (oc), D1 SUB (out), D2 GNDT (power), D3 VDDIO (power), D4 NRST (in), D5 FB (in), E1 MAIN (out), E2 GND_WLED (power), E3 VDD2 (power), E4 GND_SW (power), E5 SW (power)

## LP5526TL/NOPB
designator U?
Lighting Management Unit with High Voltage Boost Converter with up to 150mA Serial FLASH LED Driver, 25-pin Micro SMD, Pb-Free; PartNumber: LP5526TL/NOPB; Manufacturer: National Semiconductor; PackageTopMarking: XYTT*I 5526; PowerWise: Y; CompType: Switcher; DatasheetVersion: Mar-2006; PackageVersion: revD, Dec-2003; PackageReference: TLA25CCA; PackageDescription: Thin Micro SMD, 25 Bump (Large), 0.5mm Pitch; RoHS: Y; PinCount: 25; High-Reliability: Y; Code_JEDEC: MO-211-DH; ComponentLink1Description: Manufacturer URL; ComponentLink1URL: http://www.national.com/; ComponentLink2Description: LP5526 Datasheet; ComponentLink2URL: http://www.national.com/ds/LP/LP5526.pdf; ComponentLink3Description: LP5526 Web Page; ComponentLink3URL: http://www.national.com/pf/LP/LP5526.html; ComponentLink4Description: TLA25CCA Package Page; ComponentLink4URL: http://www.national.com/packaging/folders/tla25cca.html
footprint TLA25CCA (Micro SMD, 25-Leads, Body 2.54x2.54mm, Pitch 0.5mm, NSC Recommended)
pins: A1 IRT, A2 GPIO[1] (io), A3 GPIO[0]/PWM (io), A4 GND_RGB (power), A5 BLED (oc), B1 GND (power), B2 VREF, B3 GPIO[2] (io), B4 IRGB, B5 GLED (oc), C1 VDDA (power), C2 VDD1 (power), C3 SDA (io), C4 SCL (in), C5 RLED (oc), D1 SUB (out), D2 GNDT (power), D3 VDDIO (power), D4 NRST (in), D5 FB (in), E1 MAIN (out), E2 GND_WLED (power), E3 VDD2 (power), E4 GND_SW (power), E5 SW (power)

## LP5526TLX/NOPB
designator U?
Lighting Management Unit with High Voltage Boost Converter with up to 150mA Serial FLASH LED Driver, 25-pin Micro SMD, Pb-Free; PartNumber: LP5526TLX/NOPB; Manufacturer: National Semiconductor; PackageTopMarking: XYTT*I 5526; PowerWise: Y; CompType: Switcher; DatasheetVersion: Mar-2006; PackageVersion: revD, Dec-2003; PackageReference: TLA25CCA; PackageDescription: Thin Micro SMD, 25 Bump (Large), 0.5mm Pitch; RoHS: Y; PinCount: 25; High-Reliability: Y; Code_JEDEC: MO-211-DH; ComponentLink1Description: Manufacturer URL; ComponentLink1URL: http://www.national.com/; ComponentLink2Description: LP5526 Datasheet; ComponentLink2URL: http://www.national.com/ds/LP/LP5526.pdf; ComponentLink3Description: LP5526 Web Page; ComponentLink3URL: http://www.national.com/pf/LP/LP5526.html; ComponentLink4Description: TLA25CCA Package Page; ComponentLink4URL: http://www.national.com/packaging/folders/tla25cca.html
footprint TLA25CCA (Micro SMD, 25-Leads, Body 2.54x2.54mm, Pitch 0.5mm, NSC Recommended)
pins: A1 IRT, A2 GPIO[1] (io), A3 GPIO[0]/PWM (io), A4 GND_RGB (power), A5 BLED (oc), B1 GND (power), B2 VREF, B3 GPIO[2] (io), B4 IRGB, B5 GLED (oc), C1 VDDA (power), C2 VDD1 (power), C3 SDA (io), C4 SCL (in), C5 RLED (oc), D1 SUB (out), D2 GNDT (power), D3 VDDIO (power), D4 NRST (in), D5 FB (in), E1 MAIN (out), E2 GND_WLED (power), E3 VDD2 (power), E4 GND_SW (power), E5 SW (power)

## LP5527TL
designator U?
Tiny LED Driver for Camera Flash and 4 LEDs with I2C Programmability, Connectivity Test and Audio Synchronization, 30-pin Micro SMD; PartNumber: LP5527TL; Manufacturer: National Semiconductor; PackageTopMarking: XYTT*I 5527; PowerWise: Y; CompType: Switcher; DatasheetVersion: May-2006; PackageVersion: revC, Dec-2003; PackageReference: TLA3011A; PackageDescription: Thin Micro SMD, 30 Bump (Large), 0.5mm Pitch; RoHS: Y; PinCount: 30; High-Reliability: Y; Code_JEDEC: MO-211-DJ; ComponentLink1Description: Manufacturer URL; ComponentLink1URL: http://www.national.com/; ComponentLink2Description: LP5527 Datasheet; ComponentLink2URL: http://www.national.com/ds/LP/LP5527.pdf; ComponentLink3Description: LP5527 Web Page; ComponentLink3URL: http://www.national.com/pf/LP/LP5527.html; ComponentLink4Description: TLA3011A Package Page; ComponentLink4URL: http://www.national.com/packaging/folders/tla3011a.html
footprint TLA3011A (Micro SMD, 30-Leads, Body 2.97x2.47mm, Pitch 0.5mm, NSC Recommended)
pins: A1 VDD2 (power), A2 IFLASH, A3 NRST (in), A4 LED4 (out), A5 LED2 (out), B1 VDDA (power), B2 ASE2 (in), B3 SCL (in), B4 LED3 (out), B5 LED1 (out), C1 VREF, C2 ASE1 (in), C3 GND (power), C4 T1, C5 GND_LED (power), D1 GNDA (power), D2 RT, D3 VDD1 (power), D4 T2, D5 FB (in), E1 VDD_IO (power), E2 SDA (oc), E3 FLASH_SYNC (in), E4 GND_SW2 (power), E5 SW2 (power), F1 GND_FLASH (power), F2 FLASH (out), F3 GNDC (power), F4 GND_SW1 (power), F5 SW1 (power)

## LP5527TL/NOPB
designator U?
Tiny LED Driver for Camera Flash and 4 LEDs with I2C Programmability, Connectivity Test and Audio Synchronization, 30-pin Micro SMD, Pb-Free; PartNumber: LP5527TL/NOPB; Manufacturer: National Semiconductor; PackageTopMarking: XYTT*I 5527; PowerWise: Y; CompType: Switcher; DatasheetVersion: May-2006; PackageVersion: revC, Dec-2003; PackageReference: TLA3011A; PackageDescription: Thin Micro SMD, 30 Bump (Large), 0.5mm Pitch; RoHS: Y; PinCount: 30; High-Reliability: Y; Code_JEDEC: MO-211-DJ; ComponentLink1Description: Manufacturer URL; ComponentLink1URL: http://www.national.com/; ComponentLink2Description: LP5527 Datasheet; ComponentLink2URL: http://www.national.com/ds/LP/LP5527.pdf; ComponentLink3Description: LP5527 Web Page; ComponentLink3URL: http://www.national.com/pf/LP/LP5527.html; ComponentLink4Description: TLA3011A Package Page; ComponentLink4URL: http://www.national.com/packaging/folders/tla3011a.html
footprint TLA3011A (Micro SMD, 30-Leads, Body 2.97x2.47mm, Pitch 0.5mm, NSC Recommended)
pins: A1 VDD2 (power), A2 IFLASH, A3 NRST (in), A4 LED4 (out), A5 LED2 (out), B1 VDDA (power), B2 ASE2 (in), B3 SCL (in), B4 LED3 (out), B5 LED1 (out), C1 VREF, C2 ASE1 (in), C3 GND (power), C4 T1, C5 GND_LED (power), D1 GNDA (power), D2 RT, D3 VDD1 (power), D4 T2, D5 FB (in), E1 VDD_IO (power), E2 SDA (oc), E3 FLASH_SYNC (in), E4 GND_SW2 (power), E5 SW2 (power), F1 GND_FLASH (power), F2 FLASH (out), F3 GNDC (power), F4 GND_SW1 (power), F5 SW1 (power)

## LP5527TLX/NOPB
designator U?
Tiny LED Driver for Camera Flash and 4 LEDs with I2C Programmability, Connectivity Test and Audio Synchronization, 30-pin Micro SMD, Pb-Free; PartNumber: LP5527TLX/NOPB; Manufacturer: National Semiconductor; PackageTopMarking: XYTT*I 5527; PowerWise: Y; CompType: Switcher; DatasheetVersion: May-2006; PackageVersion: revC, Dec-2003; PackageReference: TLA3011A; PackageDescription: Thin Micro SMD, 30 Bump (Large), 0.5mm Pitch; RoHS: Y; PinCount: 30; High-Reliability: Y; Code_JEDEC: MO-211-DJ; ComponentLink1Description: Manufacturer URL; ComponentLink1URL: http://www.national.com/; ComponentLink2Description: LP5527 Datasheet; ComponentLink2URL: http://www.national.com/ds/LP/LP5527.pdf; ComponentLink3Description: LP5527 Web Page; ComponentLink3URL: http://www.national.com/pf/LP/LP5527.html; ComponentLink4Description: TLA3011A Package Page; ComponentLink4URL: http://www.national.com/packaging/folders/tla3011a.html
footprint TLA3011A (Micro SMD, 30-Leads, Body 2.97x2.47mm, Pitch 0.5mm, NSC Recommended)
pins: A1 VDD2 (power), A2 IFLASH, A3 NRST (in), A4 LED4 (out), A5 LED2 (out), B1 VDDA (power), B2 ASE2 (in), B3 SCL (in), B4 LED3 (out), B5 LED1 (out), C1 VREF, C2 ASE1 (in), C3 GND (power), C4 T1, C5 GND_LED (power), D1 GNDA (power), D2 RT, D3 VDD1 (power), D4 T2, D5 FB (in), E1 VDD_IO (power), E2 SDA (oc), E3 FLASH_SYNC (in), E4 GND_SW2 (power), E5 SW2 (power), F1 GND_FLASH (power), F2 FLASH (out), F3 GNDC (power), F4 GND_SW1 (power), F5 SW1 (power)

## LP8543SQE/NOPB
designator U?
SMBus/I2C Controlled WLED Driver for Medium Sized LCD Backlight, 24-pin LLP, 250 Reel; PartNumber: LP8543SQE/NOPB; Manufacturer: National Semiconductor; PackageTopMarking: NS*UZXYTT*L8543SQ; PowerWise: Y; CompType: Switcher; DatasheetVersion: Sep-2011; PackageVersion: revB, Aug-2003; PackageReference: SQA24A; PackageDescription: LLP, Plastic, Quad, 4 x 4 x 0.8mm Body, 24 Lead, 0.5mm Pitch, No Pullback; RoHS: Y; PinCount: 24; High-Reliability: Y; Code_JEDEC: MO-220-WGGD-6; ComponentLink1Description: Manufacturer URL; ComponentLink1URL: http://www.national.com/; ComponentLink2Description: LP8543 Datasheet; ComponentLink2URL: http://www.national.com/ds/LP/LP8543.pdf; ComponentLink3Description: LP8543 Web Page; ComponentLink3URL: http://www.national.com/pf/LP/LP8543.html; ComponentLink4Description: SQA24A Package Page; ComponentLink4URL: http://www.national.com/packaging/folders/sqa24a.html
footprint SQA24A (QFN, 24-Leads, Body 4x4mm, Pitch 0.5mm, Thermal Pad 2.7x2.7mm, NSC Recommended)
pins: 1 GND_SW (power), 2 PWM (in), 3 IF_SEL (in), 4 EN (in), 5 ALSI (in), 6 ALSO (out), 7 FAULT (oc), 8 VDDIO (power), 9 GND_S (power), 10 SCLK (in), 11 SDA (io), 12 OUT1 (out), 13 OUT2 (out), 14 OUT3 (out), 15 GND_L (power), 16 OUT4 (out), 17 OUT5 (out), 18 OUT6 (out), 19 OUT7 (out), 20 ADR (in), 21 FB (in), 22 VLDO (power), 23 VIN (power), 24 SW (power), 25 DAP (power)

## LP8543SQX/NOPB
designator U?
SMBus/I2C Controlled WLED Driver for Medium Sized LCD Backlight, 24-pin LLP, 4500 Reel; PartNumber: LP8543SQX/NOPB; Manufacturer: National Semiconductor; PackageTopMarking: NS*UZXYTT*L8543SQ; PowerWise: Y; CompType: Switcher; DatasheetVersion: Sep-2011; PackageVersion: revB, Aug-2003; PackageReference: SQA24A; PackageDescription: LLP, Plastic, Quad, 4 x 4 x 0.8mm Body, 24 Lead, 0.5mm Pitch, No Pullback; RoHS: Y; PinCount: 24; High-Reliability: Y; Code_JEDEC: MO-220-WGGD-6; ComponentLink1Description: Manufacturer URL; ComponentLink1URL: http://www.national.com/; ComponentLink2Description: LP8543 Datasheet; ComponentLink2URL: http://www.national.com/ds/LP/LP8543.pdf; ComponentLink3Description: LP8543 Web Page; ComponentLink3URL: http://www.national.com/pf/LP/LP8543.html; ComponentLink4Description: SQA24A Package Page; ComponentLink4URL: http://www.national.com/packaging/folders/sqa24a.html
footprint SQA24A (QFN, 24-Leads, Body 4x4mm, Pitch 0.5mm, Thermal Pad 2.7x2.7mm, NSC Recommended)
pins: 1 GND_SW (power), 2 PWM (in), 3 IF_SEL (in), 4 EN (in), 5 ALSI (in), 6 ALSO (out), 7 FAULT (oc), 8 VDDIO (power), 9 GND_S (power), 10 SCLK (in), 11 SDA (io), 12 OUT1 (out), 13 OUT2 (out), 14 OUT3 (out), 15 GND_L (power), 16 OUT4 (out), 17 OUT5 (out), 18 OUT6 (out), 19 OUT7 (out), 20 ADR (in), 21 FB (in), 22 VLDO (power), 23 VIN (power), 24 SW (power), 25 DAP (power)

## LP8545SQE/NOPB
designator U?
High-Efficiency LED Backlight Driver for Notebooks, 24-pin LLP, 250 Reel; PartNumber: LP8545SQE/NOPB; Manufacturer: National Semiconductor; PackageTopMarking: NS*UZXYTT*L8545SQ; PowerWise: Y; CompType: Switcher; DatasheetVersion: Sep-2011; PackageVersion: revB, Aug-2003; PackageReference: SQA24A; PackageDescription: LLP, Plastic, Quad, 4 x 4 x 0.8mm Body, 24 Lead, 0.5mm Pitch, No Pullback; RoHS: Y; PinCount: 24; High-Reliability: Y; Code_JEDEC: MO-220-WGGD-6; ComponentLink1Description: Manufacturer URL; ComponentLink1URL: http://www.national.com/; ComponentLink2Description: LP8545 Datasheet; ComponentLink2URL: http://www.national.com/ds/LP/LP8545.pdf; ComponentLink3Description: LP8545 Web Page; ComponentLink3URL: http://www.national.com/pf/LP/LP8545.html; ComponentLink4Description: SQA24A Package Page; ComponentLink4URL: http://www.national.com/packaging/folders/sqa24a.html
footprint SQA24A (QFN, 24-Leads, Body 4x4mm, Pitch 0.5mm, Thermal Pad 2.7x2.7mm, NSC Recommended)
pins: 1 GND_SW (power), 2 PWM (in), 3 ISET, 4 EN (in), 5 FSET, 6 GD (out), 7 FAULT (oc), 8 VDDIO (power), 9 GND_S (power), 10 SCLK (in), 11 SDA (io), 12 OUT1 (out), 13 OUT2 (out), 14 OUT3 (out), 15 GND_L (power), 16 OUT4 (out), 17 OUT5 (out), 18 OUT6 (out), 19 VSYNC (in), 20 FILTER, 21 FB (in), 22 VLDO (power), 23 VIN (power), 24 SW (power), 25 DAP (power)

## LP8545SQX/NOPB
designator U?
High-Efficiency LED Backlight Driver for Notebooks, 24-pin LLP, 4500 Reel; PartNumber: LP8545SQX/NOPB; Manufacturer: National Semiconductor; PackageTopMarking: NS*UZXYTT*L8545SQ; PowerWise: Y; CompType: Switcher; DatasheetVersion: Sep-2011; PackageVersion: revB, Aug-2003; PackageReference: SQA24A; PackageDescription: LLP, Plastic, Quad, 4 x 4 x 0.8mm Body, 24 Lead, 0.5mm Pitch, No Pullback; RoHS: Y; PinCount: 24; High-Reliability: Y; Code_JEDEC: MO-220-WGGD-6; ComponentLink1Description: Manufacturer URL; ComponentLink1URL: http://www.national.com/; ComponentLink2Description: LP8545 Datasheet; ComponentLink2URL: http://www.national.com/ds/LP/LP8545.pdf; ComponentLink3Description: LP8545 Web Page; ComponentLink3URL: http://www.national.com/pf/LP/LP8545.html; ComponentLink4Description: SQA24A Package Page; ComponentLink4URL: http://www.national.com/packaging/folders/sqa24a.html
footprint SQA24A (QFN, 24-Leads, Body 4x4mm, Pitch 0.5mm, Thermal Pad 2.7x2.7mm, NSC Recommended)
pins: 1 GND_SW (power), 2 PWM (in), 3 ISET, 4 EN (in), 5 FSET, 6 GD (out), 7 FAULT (oc), 8 VDDIO (power), 9 GND_S (power), 10 SCLK (in), 11 SDA (io), 12 OUT1 (out), 13 OUT2 (out), 14 OUT3 (out), 15 GND_L (power), 16 OUT4 (out), 17 OUT5 (out), 18 OUT6 (out), 19 VSYNC (in), 20 FILTER, 21 FB (in), 22 VLDO (power), 23 VIN (power), 24 SW (power), 25 DAP (power)

## LP8720TLE
designator U?
One Step-Down DC/DC and Five Linear Regulators with I2C Compatible Interface, 20-pin Micro SMD; PartNumber: LP8720TLE; Manufacturer: National Semiconductor; PackageTopMarking: XYTT*I 8720; PowerWise: N; CompType: Switcher; High-Reliability: Y; DatasheetVersion: Jul-2008; PackageVersion: revC, Jan-2004; PackageReference: TLA2011A; PackageDescription: Thin Micro SMD, 20 Bump (Large), 0.5mm Pitch; RoHS: Y; PinCount: 20; Code_JEDEC: MO-211-DG; ComponentLink1Description: Manufacturer URL; ComponentLink1URL: http://www.national.com/; ComponentLink2Description: LP8720 Datasheet; ComponentLink2URL: http://www.national.com/ds/LP/LP8720.pdf; ComponentLink3Description: LP8720 Web Page; ComponentLink3URL: http://www.national.com/pf/LP/LP8720.html; ComponentLink4Description: TLA2011A Package Page; ComponentLink4URL: http://www.national.com/packaging/folders/tla2011a.html
footprint TLA2011A (Micro SMD, 20-Leads, Body 2.47x1.97mm, Pitch 0.5mm, NSC Recommended)
pins: A1 LDO3 (power), A2 VIN1 (power), A3 LDO2 (power), A4 VBATT (power), B1 GND (power), B2 DEFSEL, B3 IRQ_N, B4 LDO1 (power), C1 LDO4 (power), C2 IDSEL, C3 SCL (in), C4 SDA (io), D1 VIN2 (power), D2 FB (in), D3 DVS, D4 GNDB (power), E1 LDO5 (power), E2 EN (in), E3 SW (power), E4 VINB (power)

## LP8720TLE/NOPB
designator U?
One Step-Down DC/DC and Five Linear Regulators with I2C Compatible Interface, 20-pin Micro SMD, Pb-Free; PartNumber: LP8720TLE/NOPB; Manufacturer: National Semiconductor; PackageTopMarking: XYTT*I 8720; PowerWise: N; CompType: Switcher; High-Reliability: Y; DatasheetVersion: Jul-2008; PackageVersion: revC, Jan-2004; PackageReference: TLA2011A; PackageDescription: Thin Micro SMD, 20 Bump (Large), 0.5mm Pitch; RoHS: Y; PinCount: 20; Code_JEDEC: MO-211-DG; ComponentLink1Description: Manufacturer URL; ComponentLink1URL: http://www.national.com/; ComponentLink2Description: LP8720 Datasheet; ComponentLink2URL: http://www.national.com/ds/LP/LP8720.pdf; ComponentLink3Description: LP8720 Web Page; ComponentLink3URL: http://www.national.com/pf/LP/LP8720.html; ComponentLink4Description: TLA2011A Package Page; ComponentLink4URL: http://www.national.com/packaging/folders/tla2011a.html
footprint TLA2011A (Micro SMD, 20-Leads, Body 2.47x1.97mm, Pitch 0.5mm, NSC Recommended)
pins: A1 LDO3 (power), A2 VIN1 (power), A3 LDO2 (power), A4 VBATT (power), B1 GND (power), B2 DEFSEL, B3 IRQ_N, B4 LDO1 (power), C1 LDO4 (power), C2 IDSEL, C3 SCL (in), C4 SDA (io), D1 VIN2 (power), D2 FB (in), D3 DVS, D4 GNDB (power), E1 LDO5 (power), E2 EN (in), E3 SW (power), E4 VINB (power)